# EAGLE library part DRV8302 (library fablab)
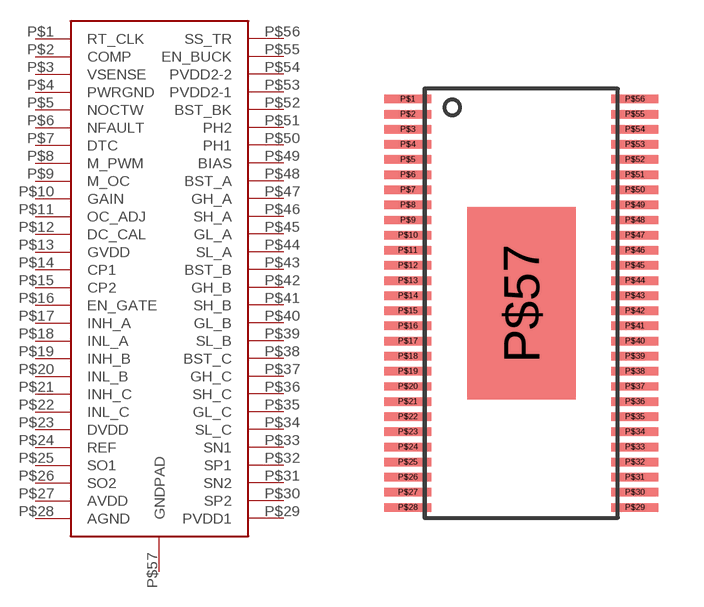
[diagram p22: symbol with the pads of HTSSOP-56; footprint HTSSOP-56]

Designator prefix -

## DRV8302  [HTSSOP-56]
P$1  RT_CLK
P$2  COMP
P$3  VSENSE
P$4  PWRGND
P$5  NOCTW
P$6  NFAULT
P$7  DTC
P$8  M_PWM
P$9  M_OC
P$10  GAIN
P$11  OC_ADJ
P$12  DC_CAL
P$13  GVDD
P$14  CP1
P$15  CP2
P$16  EN_GATE
P$17  INH_A
P$18  INL_A
P$19  INH_B
P$20  INL_B
P$21  INH_C
P$22  INL_C
P$23  DVDD
P$24  REF
P$25  SO1
P$26  SO2
P$27  AVDD
P$28  AGND
P$29  PVDD1
P$30  SP2
P$31  SN2
P$32  SP1
P$33  SN1
P$34  SL_C
P$35  GL_C
P$36  SH_C
P$37  GH_C
P$38  BST_C
P$39  SL_B
P$40  GL_B
P$41  SH_B
P$42  GH_B
P$43  BST_B
P$44  SL_A
P$45  GL_A
P$46  SH_A
P$47  GH_A
P$48  BST_A
P$49  BIAS
P$50  PH1
P$51  PH2
P$52  BST_BK
P$53  PVDD2-1
P$54  PVDD2-2
P$55  EN_BUCK
P$56  SS_TR
P$57  GNDPAD

## Footprint HTSSOP-56 (pad centres in mm)
smd 1.549 x 0.279: P$1 -3.75,6.75; P$2 -3.75,6.25; P$3 -3.75,5.75; P$4 -3.75,5.25; P$5 -3.75,4.75; P$6 -3.75,4.25; P$7 -3.75,3.75; P$8 -3.75,3.25; P$9 -3.75,2.75; P$10 -3.75,2.25; P$11 -3.75,1.75; P$12 -3.75,1.25; P$13 -3.75,0.75; P$14 -3.75,0.25; P$15 -3.75,-0.25; P$16 -3.75,-0.75; P$17 -3.75,-1.25; P$18 -3.75,-1.75; P$19 -3.75,-2.25; P$20 -3.75,-2.75; P$21 -3.75,-3.25; P$22 -3.75,-3.75; P$23 -3.75,-4.25; P$24 -3.75,-4.75; P$25 -3.75,-5.25; P$26 -3.75,-5.75; P$27 -3.75,-6.25; P$28 -3.75,-6.75; P$29 3.75,-6.75; P$30 3.75,-6.25; P$31 3.75,-5.75; P$32 3.75,-5.25; P$33 3.75,-4.75; P$34 3.75,-4.25; P$35 3.75,-3.75; P$36 3.75,-3.25; P$37 3.75,-2.75; P$38 3.75,-2.25; P$39 3.75,-1.75; P$40 3.75,-1.25; P$41 3.75,-0.75; P$42 3.75,-0.25; P$43 3.75,0.25; P$44 3.75,0.75; P$45 3.75,1.25; P$46 3.75,1.75; P$47 3.75,2.25; P$48 3.75,2.75; P$49 3.75,3.25; P$50 3.75,3.75; P$51 3.75,4.25; P$52 3.75,4.75; P$53 3.75,5.25; P$54 3.75,5.75; P$55 3.75,6.25; P$56 3.75,6.75
smd 3.581 x 6.35: P$57 0,0